# EAGLE library part FM31278 (library sgqparts)
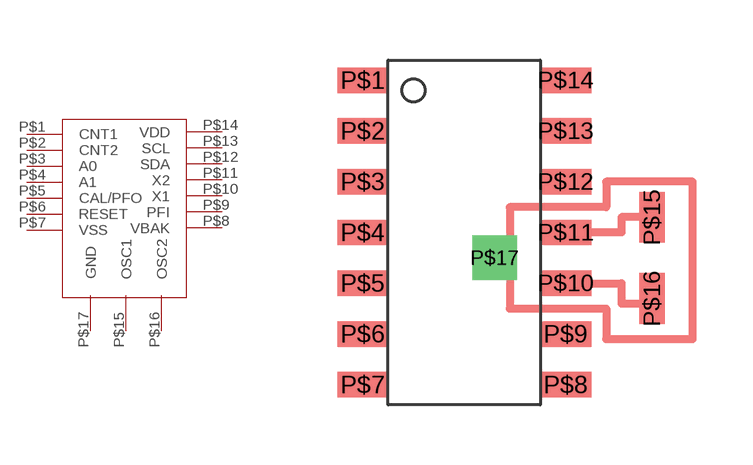
[diagram p0: symbol with the pads of SOIC14_FM3178; footprint SOIC14_FM3178]

Designator prefix -

## FM31278  [SOIC14_FM3178]
P$1  CNT1
P$2  CNT2
P$3  A0
P$4  A1
P$5  CAL/PFO
P$6  RESET
P$7  VSS
P$8  VBAK
P$9  PFI
P$10  X1
P$11  X2
P$12  SDA
P$13  SCL
P$14  VDD
P$15  OSC1
P$16  OSC2
P$17  GND

## Footprint SOIC14_FM3178 (pad centres in mm)
smd 1.27 x 0.635: P$1 -2.54,3.81; P$2 -2.54,2.54; P$3 -2.54,1.27; P$4 -2.54,0; P$5 -2.54,-1.27; P$6 -2.54,-2.54; P$7 -2.54,-3.81; P$8 2.54,-3.81; P$9 2.54,-2.54; P$10 2.54,-1.27; P$11 2.54,0; P$12 2.54,1.27; P$13 2.54,2.54; P$14 2.54,3.81
smd 0.635 x 1.27: P$15 4.699,0.381; P$16 4.699,-1.651
drill 0.6 square: P$17 0.762,-0.635